# EAGLE library part SSW-113-21-L-D (library C3-Connector)
SAMTEC 13x2 THROUGH-HOLE 100mil .025" SQ POST SOCKET 13 Pins, 2 Rows, Solder Tail, Low Force, 10µ" Gold on Contact SSW Series Catalog Page (EN) <http://www.samtec.com/documents/webfiles/pdf/SSW_TH.PDF>
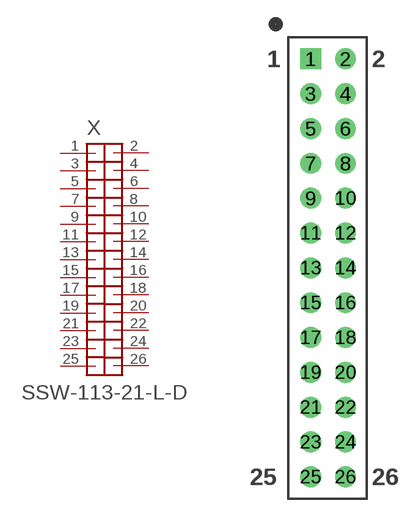
[diagram p8: symbol with the pads of SAMTEC_SSW-113-21-L-D; footprint SAMTEC_SSW-113-21-L-D]

Designator prefix X

## SSW-113-21-L-D  [SAMTEC_SSW-113-21-L-D]
1  1  pas
2  2  pas
3  3  pas
4  4  pas
5  5  pas
6  6  pas
7  7  pas
8  8  pas
9  9  pas
10  10  pas
11  11  pas
12  12  pas
13  13  pas
14  14  pas
15  15  pas
16  16  pas
17  17  pas
18  18  pas
19  19  pas
20  20  pas
21  21  pas
22  22  pas
23  23  pas
24  24  pas
25  25  pas
26  26  pas

## Footprint SAMTEC_SSW-113-21-L-D (pad centres in mm)
SAMTEC 13x2 THROUGH-HOLE .025" SQ POST SOCKET 13 Pins, 2 Rows, Solder Tail, Low Force, 10µ" Gold on Contact SSW Series Catalog Page (EN) <http://www.samtec.com/documents/webfiles/pdf/SSW_TH.PDF> SSW Assembly Drawing <http://www.samtec.com/documents/webfiles/cpdf/SSW-1XX-XX-XXX-X-XX-XXX-XX-MKT.pdf>
drill 1.016 square: 1 -1.27,15.24
drill 1.016: 2 1.27,15.24; 3 -1.27,12.7; 4 1.27,12.7; 5 -1.27,10.16; 6 1.27,10.16; 7 -1.27,7.62; 8 1.27,7.62; 9 -1.27,5.08; 10 1.27,5.08; 11 -1.27,2.54; 12 1.27,2.54; 13 -1.27,0; 14 1.27,0; 15 -1.27,-2.54; 16 1.27,-2.54; 17 -1.27,-5.08; 18 1.27,-5.08; 19 -1.27,-7.62; 20 1.27,-7.62; 21 -1.27,-10.16; 22 1.27,-10.16; 23 -1.27,-12.7; 24 1.27,-12.7; 25 -1.27,-15.24; 26 1.27,-15.24